# EAGLE library part PIC18F4*8 (library Julian_microchip)
40-Pin High Performance, Enhanced FLASH Microcontrollers with CAN device program memory (bytes) data RAM (bytes) PIC18F448 16K 768 PIC18F458 32K 1536
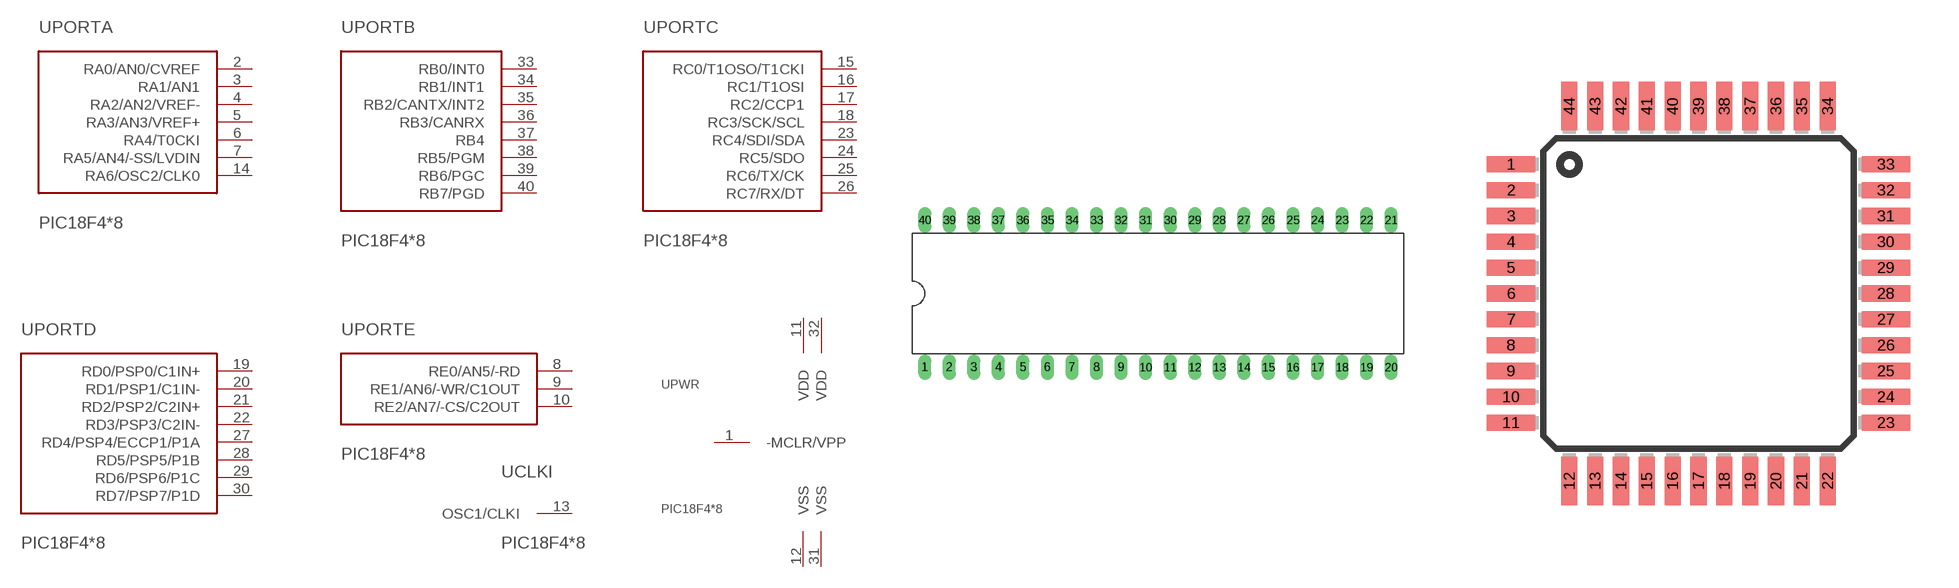
[diagram p3: symbol with the pads of DIL40; footprints DIL40, TQFP44]

Designator prefix -; gates PORTA=PIC18FXX8-PORTA PORTB=PIC18FXX8-PORTB PORTC=PIC18FXX8-PORTC PORTD=PIC18FXX8-PORTD PORTE=PIC18FXX8-PORTE CLKI=PIC18FXX8-OSC1/CLKI PWR=PIC18F4X8-POWER

## PIC18F448-E/P, PIC18F458-E/P  [DIL40]
1  PWR:-MCLR/VPP  in
2  PORTA:RA0/AN0/CVREF
3  PORTA:RA1/AN1
4  PORTA:RA2/AN2/VREF-
5  PORTA:RA3/AN3/VREF+
6  PORTA:RA4/T0CKI
7  PORTA:RA5/AN4/-SS/LVDIN
8  PORTE:RE0/AN5/-RD
9  PORTE:RE1/AN6/-WR/C1OUT
10  PORTE:RE2/AN7/-CS/C2OUT
11  PWR:VDD  pwr
12  PWR:VSS  pwr
13  CLKI:OSC1/CLKI  in
14  PORTA:RA6/OSC2/CLK0
15  PORTC:RC0/T1OSO/T1CKI
16  PORTC:RC1/T1OSI
17  PORTC:RC2/CCP1
18  PORTC:RC3/SCK/SCL
19  PORTD:RD0/PSP0/C1IN+
20  PORTD:RD1/PSP1/C1IN-
21  PORTD:RD2/PSP2/C2IN+
22  PORTD:RD3/PSP3/C2IN-
23  PORTC:RC4/SDI/SDA
24  PORTC:RC5/SDO
25  PORTC:RC6/TX/CK
26  PORTC:RC7/RX/DT
27  PORTD:RD4/PSP4/ECCP1/P1A
28  PORTD:RD5/PSP5/P1B
29  PORTD:RD6/PSP6/P1C
30  PORTD:RD7/PSP7/P1D
31  PWR:VSS  pwr
32  PWR:VDD  pwr
33  PORTB:RB0/INT0
34  PORTB:RB1/INT1
35  PORTB:RB2/CANTX/INT2
36  PORTB:RB3/CANRX
37  PORTB:RB4
38  PORTB:RB5/PGM
39  PORTB:RB6/PGC
40  PORTB:RB7/PGD

## PIC18F448-I/P, PIC18F458-I/P  [DIL40]
Pads as for DIL40

## PIC18F448-E/PT, PIC18F458-E/PT  [TQFP44]
1  PORTC:RC7/RX/DT
2  PORTD:RD4/PSP4/ECCP1/P1A
3  PORTD:RD5/PSP5/P1B
4  PORTD:RD6/PSP6/P1C
5  PORTD:RD7/PSP7/P1D
6  PWR:VSS  pwr
7  PWR:VDD  pwr
8  PORTB:RB0/INT0
9  PORTB:RB1/INT1
10  PORTB:RB2/CANTX/INT2
11  PORTB:RB3/CANRX
14  PORTB:RB4
15  PORTB:RB5/PGM
16  PORTB:RB6/PGC
17  PORTB:RB7/PGD
18  PWR:-MCLR/VPP  in
19  PORTA:RA0/AN0/CVREF
20  PORTA:RA1/AN1
21  PORTA:RA2/AN2/VREF-
22  PORTA:RA3/AN3/VREF+
23  PORTA:RA4/T0CKI
24  PORTA:RA5/AN4/-SS/LVDIN
25  PORTE:RE0/AN5/-RD
26  PORTE:RE1/AN6/-WR/C1OUT
27  PORTE:RE2/AN7/-CS/C2OUT
28  PWR:VDD  pwr
29  PWR:VSS  pwr
30  CLKI:OSC1/CLKI  in
31  PORTA:RA6/OSC2/CLK0
32  PORTC:RC0/T1OSO/T1CKI
35  PORTC:RC1/T1OSI
36  PORTC:RC2/CCP1
37  PORTC:RC3/SCK/SCL
38  PORTD:RD0/PSP0/C1IN+
39  PORTD:RD1/PSP1/C1IN-
40  PORTD:RD2/PSP2/C2IN+
41  PORTD:RD3/PSP3/C2IN-
42  PORTC:RC4/SDI/SDA
43  PORTC:RC5/SDO
44  PORTC:RC6/TX/CK

## PIC18F448-I/PT, PIC18F458-I/PT  [TQFP44]
Pads as for TQFP44

## PIC18F448-E/L, PIC18F458-E/L  [PLCC-44]
2  PWR:-MCLR/VPP  in
3  PORTA:RA0/AN0/CVREF
4  PORTA:RA1/AN1
5  PORTA:RA2/AN2/VREF-
6  PORTA:RA3/AN3/VREF+
7  PORTA:RA4/T0CKI
8  PORTA:RA5/AN4/-SS/LVDIN
9  PORTE:RE0/AN5/-RD
10  PORTE:RE1/AN6/-WR/C1OUT
11  PORTE:RE2/AN7/-CS/C2OUT
12  PWR:VDD  pwr
13  PWR:VSS  pwr
14  CLKI:OSC1/CLKI  in
15  PORTA:RA6/OSC2/CLK0
16  PORTC:RC0/T1OSO/T1CKI
18  PORTC:RC1/T1OSI
19  PORTC:RC2/CCP1
20  PORTC:RC3/SCK/SCL
21  PORTD:RD0/PSP0/C1IN+
22  PORTD:RD1/PSP1/C1IN-
23  PORTD:RD2/PSP2/C2IN+
24  PORTD:RD3/PSP3/C2IN-
25  PORTC:RC4/SDI/SDA
26  PORTC:RC5/SDO
27  PORTC:RC6/TX/CK
29  PORTC:RC7/RX/DT
30  PORTD:RD4/PSP4/ECCP1/P1A
31  PORTD:RD5/PSP5/P1B
32  PORTD:RD6/PSP6/P1C
33  PORTD:RD7/PSP7/P1D
34  PWR:VSS  pwr
35  PWR:VDD  pwr
36  PORTB:RB0/INT0
37  PORTB:RB1/INT1
38  PORTB:RB2/CANTX/INT2
39  PORTB:RB3/CANRX
41  PORTB:RB4
42  PORTB:RB5/PGM
43  PORTB:RB6/PGC
44  PORTB:RB7/PGD

## PIC18F448-I/L, PIC18F458-I/L  [PLCC-44]
Pads as for PLCC-44

## Footprint DIL40 (pad centres in mm)
Dual In Line package type P
drill 0.813 long: 1 -24.13,-7.62; 2 -21.59,-7.62; 3 -19.05,-7.62; 4 -16.51,-7.62; 5 -13.97,-7.62; 6 -11.43,-7.62; 7 -8.89,-7.62; 8 -6.35,-7.62; 9 -3.81,-7.62; 10 -1.27,-7.62; 11 1.27,-7.62; 12 3.81,-7.62; 13 6.35,-7.62; 14 8.89,-7.62; 15 11.43,-7.62; 16 13.97,-7.62; 17 16.51,-7.62; 18 19.05,-7.62; 19 21.59,-7.62; 20 24.13,-7.62; 21 24.13,7.62; 22 21.59,7.62; 23 19.05,7.62; 24 16.51,7.62; 25 13.97,7.62; 26 11.43,7.62; 27 8.89,7.62; 28 6.35,7.62; 29 3.81,7.62; 30 1.27,7.62; 31 -1.27,7.62; 32 -3.81,7.62; 33 -6.35,7.62; 34 -8.89,7.62; 35 -11.43,7.62; 36 -13.97,7.62; 37 -16.51,7.62; 38 -19.05,7.62; 39 -21.59,7.62; 40 -24.13,7.62

## Footprint TQFP44 (pad centres in mm)
Thin Quad Flat Pack package type TQ
smd 1.5 x 0.5: 1 -5.8,4; 2 -5.8,3.2; 3 -5.8,2.4; 4 -5.8,1.6; 5 -5.8,0.8; 6 -5.8,0; 7 -5.8,-0.8; 8 -5.8,-1.6; 9 -5.8,-2.4; 10 -5.8,-3.2; 11 -5.8,-4; 23 5.8,-4; 24 5.8,-3.2; 25 5.8,-2.4; 26 5.8,-1.6; 27 5.8,-0.8; 28 5.8,0; 29 5.8,0.8; 30 5.8,1.6; 31 5.8,2.4; 32 5.8,3.2; 33 5.8,4
smd 0.5 x 1.5: 12 -4,-5.8; 13 -3.2,-5.8; 14 -2.4,-5.8; 15 -1.6,-5.8; 16 -0.8,-5.8; 17 0,-5.8; 18 0.8,-5.8; 19 1.6,-5.8; 20 2.4,-5.8; 21 3.2,-5.8; 22 4,-5.8; 34 4,5.8; 35 3.2,5.8; 36 2.4,5.8; 37 1.6,5.8; 38 0.8,5.8; 39 0,5.8; 40 -0.8,5.8; 41 -1.6,5.8; 42 -2.4,5.8; 43 -3.2,5.8; 44 -4,5.8

## Footprint PLCC-44 (pad centres in mm)
PLASTIC LEADED CHIP CARRIER square, package type L
smd 1.8 x 0.76: 1 -7.86,0; 2 -7.86,-1.27; 3 -7.86,-2.54; 4 -7.86,-3.81; 5 -7.86,-5.08; 6 -7.86,-6.35; 18 7.86,-6.35; 19 7.86,-5.08; 20 7.86,-3.81; 21 7.86,-2.54; 22 7.86,-1.27; 23 7.86,0; 24 7.86,1.27; 25 7.86,2.54; 26 7.86,3.81; 27 7.86,5.08; 28 7.86,6.35; 40 -7.86,6.35; 41 -7.86,5.08; 42 -7.86,3.81; 43 -7.86,2.54; 44 -7.86,1.27
smd 0.76 x 1.8: 7 -6.35,-7.86; 8 -5.08,-7.86; 9 -3.81,-7.86; 10 -2.54,-7.86; 11 -1.27,-7.86; 12 0,-7.86; 13 1.27,-7.86; 14 2.54,-7.86; 15 3.81,-7.86; 16 5.08,-7.86; 17 6.35,-7.86; 29 6.35,7.86; 30 5.08,7.86; 31 3.81,7.86; 32 2.54,7.86; 33 1.27,7.86; 34 0,7.86; 35 -1.27,7.86; 36 -2.54,7.86; 37 -3.81,7.86; 38 -5.08,7.86; 39 -6.35,7.86